# Altium footprint library ARCOM_Transistors.PcbLib: 22 footprints (part 2 of 2)
Each footprint in its own frame and in the unit in brackets; x right, y up, seen from the top. Pads: shape width x height; smd on the part's side, far side on the other; paste and mask are expansions set on the pad; w line width, h text height; cw(c..) or ccw(c..) is an arc to the next point about the centre after c.
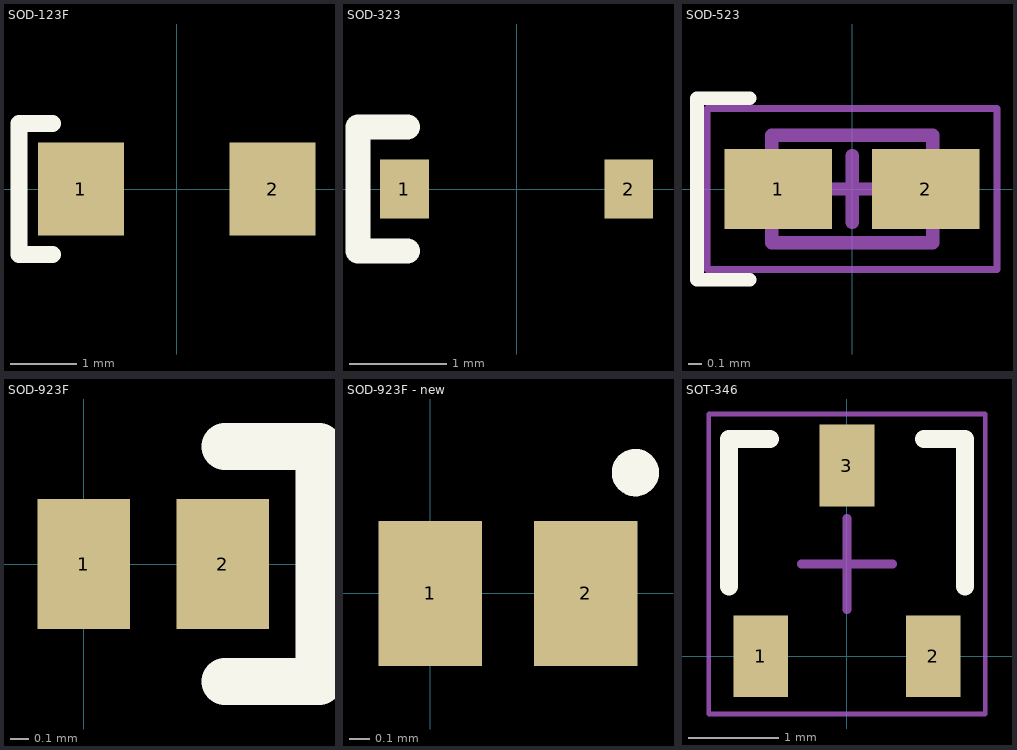
[diagram p1: the footprints below, top view; thin cyan lines are the x and y axes]

## SOD-123F [mm]
pads (2):
  rect 1.3x1.4 smd: 1(-1.45,0) 2(1.45,0)
Top Overlay:
  lines w0.254: -1.88,-0.991 -2.388,-0.991 -2.388,0.991 -1.88,0.991
3D body "User Library-SOD123F.step": height 1.2, standoff -0.01, extent -1.875,-0.85 1.875,0.85

## SOD-323 [mm]
pads (2):
  rect 0.5x0.6 smd: 1(-1.15,0) 2(1.15,0)
Top Overlay:
  lines w0.254: -1.118,-0.635 -1.626,-0.635 -1.626,0.635 -1.118,0.635
3D body "SW3dPS-SOD-323.STEP": height 1.1, standoff 0, extent -1.3,-0.675 1.3,0.675

## SOD-523 [mm]
pads (2):
  rect 0.8x0.6 smd: 1(-0.55,0) 2(0.55,0)
Top Overlay:
  lines w0.102: -0.762,-0.676 -1.156,-0.676 -1.156,0.676 -0.762,0.676
Mechanical 13:
  lines w0.1: -0.6,-0.4 0.6,-0.4 0.6,0.4 -0.6,0.4 -0.6,-0.4
M15 Top Assy:
  lines w0.05: -1.08,-0.6 1.08,-0.6 1.08,0.6 -1.08,0.6 -1.08,-0.6
  lines w0.1: -0.25,0 0.25,0 ; 0,-0.25 0,0.25
3D body: height 0.71, standoff 0.01, extent -0.6,-0.4 0.6,0.4

## SOD-923F [mm]
pads (2):
  rect 0.5x0.7 smd: 1(0,0) 2(0.75,0)
Top Overlay:
  lines w0.254: 0.762,-0.635 1.27,-0.635 1.27,0.635 0.762,0.635

## SOD-923F - new [mm]
pads (2):
  rect 0.5x0.7 smd: 1(0,0) 2(0.75,0)
Top Overlay:
  circle w0.127: c0.991,0.584 r0.051

## SOT-346 [mm]
pads (3):
  rect 0.6x0.9 smd mask+0.102: 1(-0.95,0) 2(0.95,0) 3(0,2.1)
Top Overlay:
  lines w0.2: -1.3,0.768 -1.3,2.393 -0.85,2.393 ; 0.85,2.393 1.3,2.393 1.3,0.768
M15 Top Assy:
  lines w0.05: -1.524,-0.635 -1.524,2.667 1.524,2.667 1.524,-0.635 -1.524,-0.635
  lines w0.1: -0.5,1.016 0.5,1.016 ; 0,0.516 0,1.516
3D body "SOT-346.STEP": height 1.2, standoff 0, extent -1.45,-0.384 1.45,2.416